# Altium integrated library LOC111P.IntLib: 1 symbol
Pins are listed as number, name and electrical type; pins without a type are passive.

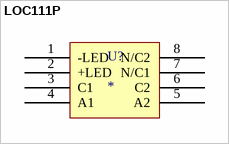
[diagram p0: symbol LOC111P]

## LOC111P
designator U?
Linear Optocoupler
footprint SOP254P940X265-8N (SOP, 8-Leads, Body 9.65x6.35mm, Pitch 2.54mm, IPC Medium Density)
pins: 1 -LED, 2 +LED, 3 C1, 4 A1, 5 A2, 6 C2, 7 N/C1, 8 N/C2